# Altium schematic symbol library TMS320f2812.SchLib: 1 symbol
Pins are listed as number, name and electrical type; pins without a type are passive.

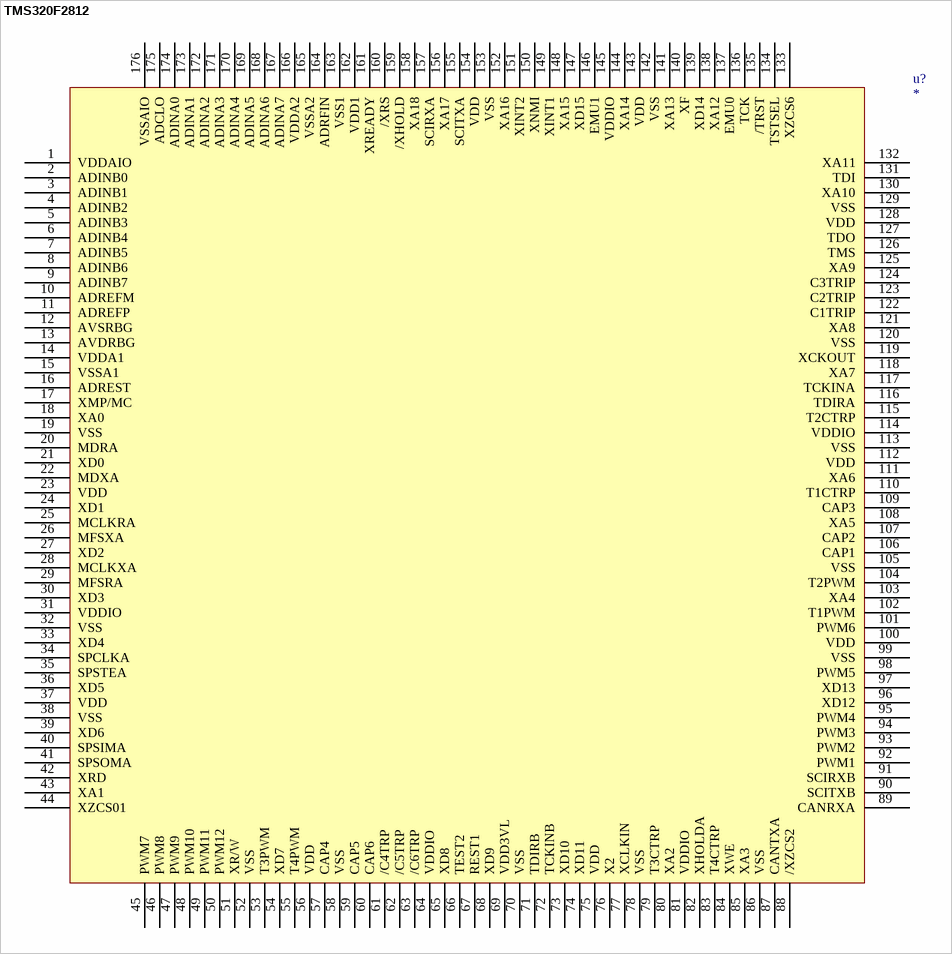
[diagram p0: symbol TMS320F2812]

## TMS320F2812
designator u?
footprint pqfp176
pins: 1 VDDAIO, 2 ADINB0, 3 ADINB1, 4 ADINB2, 5 ADINB3, 6 ADINB4, 7 ADINB5, 8 ADINB6, 9 ADINB7, 10 ADREFM, 11 ADREFP, 12 AVSRBG, 13 AVDRBG, 14 VDDA1, 15 VSSA1, 16 ADREST, 17 XMP/MC, 18 XA0, 19 VSS, 20 MDRA, 21 XD0, 22 MDXA, 23 VDD, 24 XD1, 25 MCLKRA, 26 MFSXA, 27 XD2, 28 MCLKXA, 29 MFSRA, 30 XD3, 31 VDDIO, 32 VSS, 33 XD4, 34 SPCLKA, 35 SPSTEA, 36 XD5, 37 VDD, 38 VSS, 39 XD6, 40 SPSIMA, 41 SPSOMA, 42 XRD, 43 XA1, 44 XZCS01, 45 PWM7, 46 PWM8, 47 PWM9, 48 PWM10, 49 PWM11, 50 PWM12, 51 XR/W, 52 VSS, 53 T3PWM, 54 XD7, 55 T4PWM, 56 VDD, 57 CAP4, 58 VSS, 59 CAP5, 60 CAP6, 61 /C4TRP, 62 /C5TRP, 63 /C6TRP, 64 VDDIO, 65 XD8, 66 TEST2, 67 REST1, 68 XD9, 69 VDD3VL, 70 VSS, 71 TDIRB, 72 TCKINB, 73 XD10, 74 XD11, 75 VDD, 76 X2, 77 XCLKIN, 78 VSS, 79 T3CTRP, 80 XA2, 81 VDDIO, 82 XHOLDA, 83 T4CTRP, 84 XWE, 85 XA3, 86 VSS, 87 CANTXA, 88 /XZCS2, 89 CANRXA, 90 SCITXB, 91 SCIRXB, 92 PWM1, 93 PWM2, 94 PWM3, 95 PWM4, 96 XD12, 97 XD13, 98 PWM5, 99 VSS, 100 VDD, 101 PWM6, 102 T1PWM, 103 XA4, 104 T2PWM, 105 VSS, 106 CAP1, 107 CAP2, 108 XA5, 109 CAP3, 110 T1CTRP, 111 XA6, 112 VDD, 113 VSS, 114 VDDIO, 115 T2CTRP, 116 TDIRA, 117 TCKINA, 118 XA7, 119 XCKOUT, 120 VSS, 121 XA8, 122 C1TRIP, 123 C2TRIP, 124 C3TRIP, 125 XA9, 126 TMS, 127 TDO, 128 VDD, 129 VSS, 130 XA10, 131 TDI, 132 XA11, 133 XZCS6, 134 TSTSEL, 135 /TRST, 136 TCK, 137 EMU0, 138 XA12, 139 XD14, 140 XF, 141 XA13, 142 VSS, 143 VDD, 144 XA14, 145 VDDIO, 146 EMU1, 147 XD15, 148 XA15, 149 XINT1, 150 XNMI, 151 XINT2, 152 XA16, 153 VSS, 154 VDD, 155 SCITXA, 156 XA17, 157 SCIRXA, 158 XA18, 159 /XHOLD, 160 /XRS, 161 XREADY, 162 VDD1, 163 VSS1, 164 ADRFIN, 165 VSSA2, 166 VDDA2, 167 ADINA7, 168 ADINA6, 169 ADINA5, 170 ADINA4, 171 ADINA3, 172 ADINA2, 173 ADINA1, 174 ADINA0, 175 ADCLO, 176 VSSAIO